# EAGLE library part 09-52-3062 (library Molex KK 156 09-52-3062)
Molex 09-52-3062 KK 156 Housing Assy PC Tail Bottom Entry
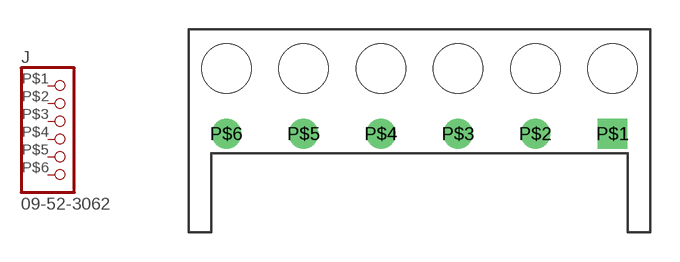
[diagram p0: symbol with the pads of 09-52-3062; footprint 09-52-3062]

Designator prefix J

## 09-52-3062  [09-52-3062]
P$1  1  pas
P$2  2  pas
P$3  3  pas
P$4  4  pas
P$5  5  pas
P$6  6  pas

## Footprint 09-52-3062 (pad centres in mm)
drill 1.016 square: P$1 0,0
drill 1.016: P$2 -3.962,0; P$3 -7.925,0; P$4 -11.887,0; P$5 -15.85,0; P$6 -19.812,0
hole 2.54 at -19.812,3.353
hole 2.54 at -15.85,3.353
hole 2.54 at -11.887,3.353
hole 2.54 at -7.925,3.353
hole 2.54 at -3.962,3.353
hole 2.54 at 0,3.353